# Altium schematic symbol library SCH - ADC - ISOLATED - AMC1311BDWVR.SCHLIB: 1 symbol
Pins are listed as number, name and electrical type; pins without a type are passive.

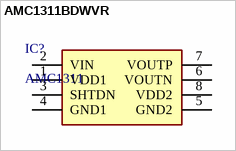
[diagram p0: symbol AMC1311BDWVR]

## AMC1311BDWVR
designator IC?, comment AMC1311
Precision Isolated Amplifier, Differential, Gain 1
pins: 1 VDD1, 2 VIN, 3 SHTDN, 4 GND1, 5 GND2, 6 VOUTN, 7 VOUTP, 8 VDD2